# EAGLE library part TLC59213 (library logick)
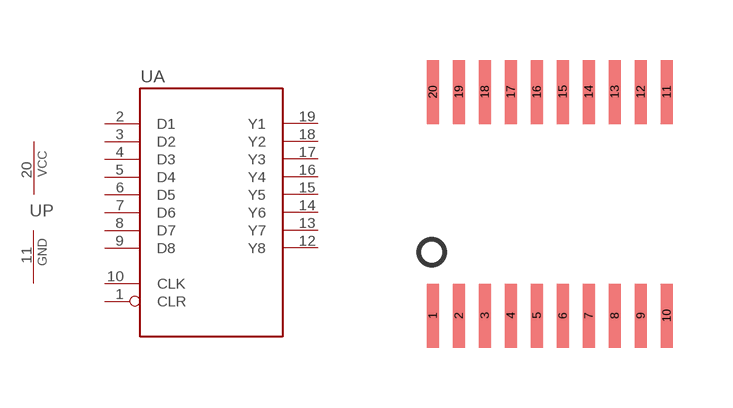
[diagram p10: symbol with the pads of TSSOP20; footprint TSSOP20]

Designator prefix -; gates A=TLC59213 P=PWRN

## TLC59213  [TSSOP20]
1  A:CLR  in
2  A:D1
3  A:D2
4  A:D3
5  A:D4
6  A:D5
7  A:D6
8  A:D7
9  A:D8
10  A:CLK
11  P:GND  pwr
12  A:Y8
13  A:Y7
14  A:Y6
15  A:Y5
16  A:Y4
17  A:Y3
18  A:Y2
19  A:Y1
20  P:VCC  pwr

## Footprint TSSOP20 (pad centres in mm)
smd 0.3 x 1.6: 1 -2.93,-2.825; 2 -2.28,-2.825; 3 -1.63,-2.825; 4 -0.98,-2.825; 5 -0.33,-2.825; 6 0.32,-2.825; 7 0.97,-2.825; 8 1.62,-2.825; 9 2.27,-2.825; 10 2.92,-2.825; 11 2.92,2.775; 12 2.27,2.775; 13 1.62,2.775; 14 0.97,2.775; 15 0.32,2.775; 16 -0.33,2.775; 17 -0.98,2.775; 18 -1.63,2.775; 19 -2.28,2.775; 20 -2.93,2.775